# Altium schematic symbol library Schlib1.SchLib: 1 symbol
Pins are listed as number, name and electrical type; pins without a type are passive.

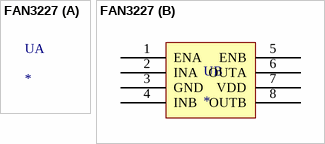
[diagram p0: symbol FAN3227]

## FAN3227
designator U
footprint SOIC-8
part B pins: 1 ENA, 2 INA, 3 GND, 4 INB, 5 ENB, 6 OUTA, 7 VDD, 8 OUTB